# EAGLE library part TX4133 (library dc-dc)
Step-down type -40℃~+125℃@(Tj) 1 0.6A 0.5V~30V 4.5V~60V 250uA 150kHz SOT-23-6L DC-DC Converters ROHS
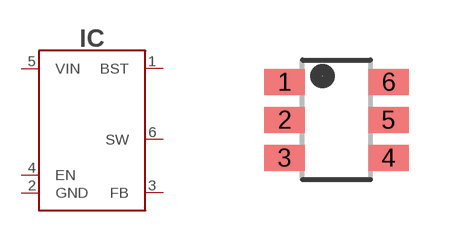
[diagram p3: symbol with the pads of SOT23-6; footprint SOT23-6]

Designator prefix IC

## TX4133 (LCSC#: C4944059; MANF: XDS; MANF#: TX4133)  [SOT23-6]
1  BST
2  GND
3  FB
4  EN
5  VIN
6  SW

## Footprint SOT23-6 (pad centres in mm)
smd 1 x 0.65: 1 -1.3,0.95; 2 -1.3,0; 3 -1.3,-0.95; 4 1.3,-0.95; 5 1.3,0; 6 1.3,0.95